# EAGLE library part STM32L1_ADAPTER (library My_STM32F767)
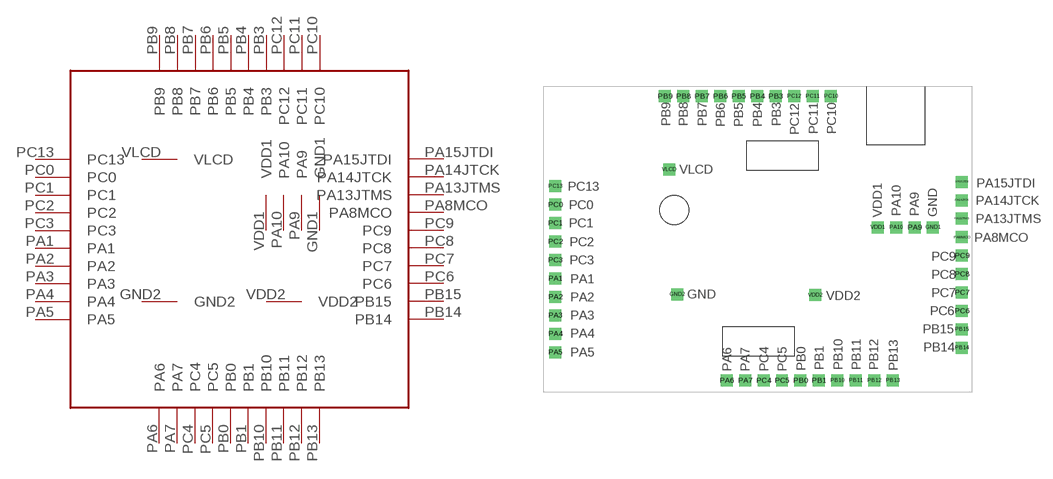
[diagram p1: symbol with the pads of STM32L1_ADAPTER; footprint STM32L1_ADAPTER]

Designator prefix -

## STM32L1_ADAPTER  [STM32L1_ADAPTER]
GND1  GND1
GND2  GND2
PA1  PA1
PA2  PA2
PA3  PA3
PA4  PA4
PA5  PA5
PA6  PA6
PA7  PA7
PA8MCO  PA8MCO
PA9  PA9
PA10  PA10
PA13JTMS  PA13JTMS
PA14JTCK  PA14JTCK
PA15JTDI  PA15JTDI
PB0  PB0
PB1  PB1
PB3  PB3
PB4  PB4
PB5  PB5
PB6  PB6
PB7  PB7
PB8  PB8
PB9  PB9
PB10  PB10
PB11  PB11
PB12  PB12
PB13  PB13
PB14  PB14
PB15  PB15
PC0  PC0
PC1  PC1
PC2  PC2
PC3  PC3
PC4  PC4
PC5  PC5
PC6  PC6
PC7  PC7
PC8  PC8
PC9  PC9
PC10  PC10
PC11  PC11
PC12  PC12
PC13  PC13
VDD1  VDD1
VDD2  VDD2
VLCD  VLCD

## Footprint STM32L1_ADAPTER (pad centres in mm)
drill 1.1 square: GND1 53.62,22.64; GND2 18.4,13.4; PA1 1.64,15.6; PA2 1.64,13.06; PA3 1.64,10.52; PA4 1.64,7.98; PA5 1.64,5.44; PA6 25.22,1.54; PA7 27.76,1.54; PA8MCO 57.6,21.28; PA9 51.08,22.64; PA10 48.54,22.64; PA13JTMS 57.6,23.82; PA14JTCK 57.6,26.36; PA15JTDI 57.6,28.9; PB0 35.38,1.54; PB1 37.92,1.54; PB3 31.96,40.7; PB4 29.42,40.7; PB5 26.88,40.7; PB6 24.34,40.7; PB7 21.8,40.7; PB8 19.26,40.7; PB9 16.72,40.7; PB10 40.46,1.54; PB11 43,1.54; PB12 45.54,1.54; PB13 48.08,1.54; PB14 57.6,6.04; PB15 57.6,8.58; PC0 1.64,25.76; PC1 1.64,23.22; PC2 1.64,20.68; PC3 1.64,18.14; PC4 30.3,1.54; PC5 32.84,1.54; PC6 57.6,11.12; PC7 57.6,13.66; PC8 57.6,16.2; PC9 57.6,18.74; PC10 39.58,40.7; PC11 37.04,40.7; PC12 34.5,40.7; PC13 1.64,28.3; VDD1 46,22.64; VDD2 37.4,13.3; VLCD 17.3,30.6